# EAGLE library part BQ2407(5/9) (library PP_PowerIC)
Manufacturer Part #: BQ24075 / BQ24079 Manufacturer: Texas Instruments Description: Battery Management Li-Ion Batt Chrgr & Pwr-Path Mgmt IC
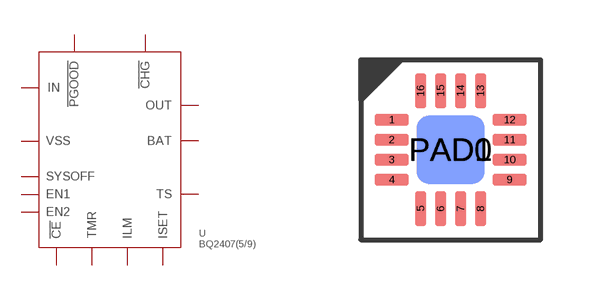
[diagram p4: symbol with the pads of BQ2407X_VQFN-16; footprint BQ2407X_VQFN-16]

Designator prefix U

## BQ2407(5/9)  [BQ2407X_VQFN-16]
1  TS
2  BAT
3  BAT
4  !CE
5  EN2
6  EN1
7  !PGOOD
8  VSS
9  !CHG
10  OUT
11  OUT
12  ILM
13  IN
14  TMR
15  SYSOFF
16  ISET
PAD0  VSS
PAD1  VSS

## Footprint BQ2407X_VQFN-16 (pad centres in mm)
smd 0.85 x 0.28: 1 -1.475,0.75; 2 -1.475,0.25; 3 -1.475,-0.25; 4 -1.475,-0.75; 9 1.475,-0.75; 10 1.475,-0.25; 11 1.475,0.25; 12 1.475,0.75
smd 0.28 x 0.85: 5 -0.75,-1.475; 6 -0.25,-1.475; 7 0.25,-1.475; 8 0.75,-1.475; 13 0.75,1.475; 14 0.25,1.475; 15 -0.25,1.475; 16 -0.75,1.475
smd 1.7 x 1.7: PAD0 0,0
smd 1.7 x 1.7 bottom: PAD1 0,0